# EAGLE library part FAN5640S7X (library KW2)
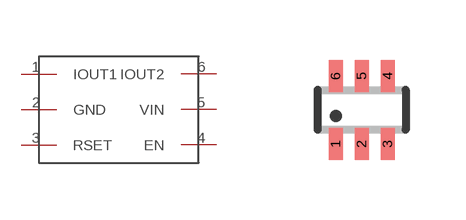
[diagram p14: symbol with the pads of SC70-6L; footprint SC70-6L]

Designator prefix -

## FAN5640S7X  [SC70-6L]
1  IOUT1
2  GND
3  RSET
4  EN
5  VIN
6  IOUT2

## Footprint SC70-6L (pad centres in mm)
SC-70 Package
smd 0.35 x 0.8: 1 -0.65,-0.85; 2 0,-0.85; 3 0.65,-0.85; 4 0.65,0.85; 5 0,0.85; 6 -0.65,0.85